# EAGLE library part 74S11D (library EW_IC_74_Logic)
AND 3 input. Category: Gates Manufacturer: Generic
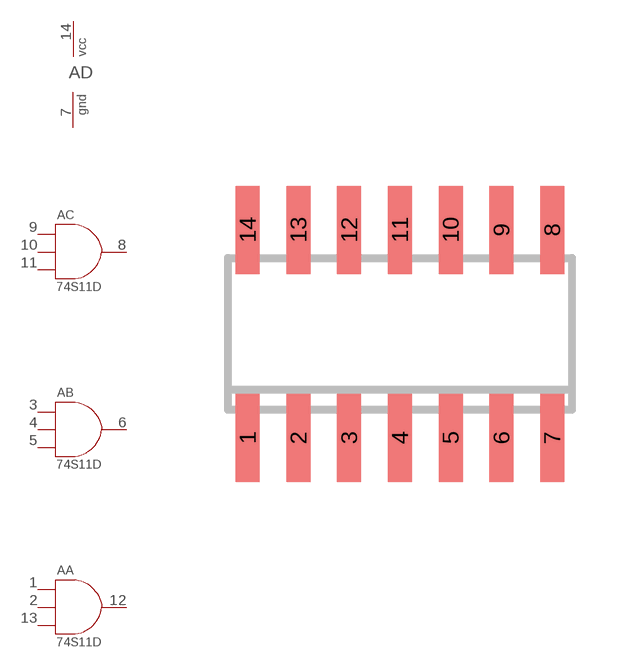
[diagram p15: symbol with the pads of SO14; footprint SO14]

Designator prefix A; gates A=AND_3 B=AND_3 C=AND_3 D=PWRN

## 74S11D  [SO14]
1  A:A  pwr
2  A:B  pwr
3  B:A  pwr
4  B:B  pwr
5  B:C  pwr
6  B:Y  pwr
7  D:GND  pwr
8  C:Y  pwr
9  C:A  pwr
10  C:B  pwr
11  C:C  pwr
12  A:Y  pwr
13  A:C  pwr
14  D:VCC  pwr

## Footprint SO14 (pad centres in mm)
SMALL OUTLINE INTEGRATED CIRCUIT body 3.9 mm/JEDEC MS-012AC
smd 0.6 x 2.2: 1 -3.81,-2.6; 2 -2.54,-2.6; 3 -1.27,-2.6; 4 0,-2.6; 5 1.27,-2.6; 6 2.54,-2.6; 7 3.81,-2.6; 8 3.81,2.6; 9 2.54,2.6; 10 1.27,2.6; 11 0,2.6; 12 -1.27,2.6; 13 -2.54,2.6; 14 -3.81,2.6